# EAGLE library part 22-05-3061 (library con-molex-kk)
HEADER
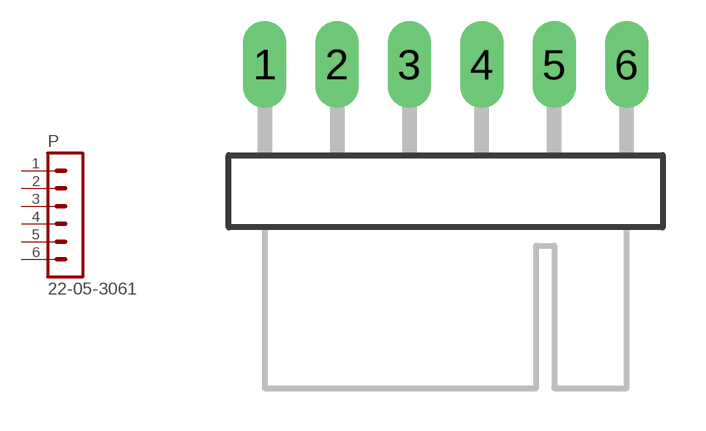
[diagram p174: symbol with the pads of 22-05-3061; footprint 22-05-3061]

Designator prefix P

## 22-05-3061  [22-05-3061]
1  1  pas
2  2  pas
3  3  pas
4  4  pas
5  5  pas
6  6  pas

## Footprint 22-05-3061 (pad centres in mm)
HEADER
drill 1.016 long: 1 -6.35,0; 2 -3.81,0; 3 -1.27,0; 4 1.27,0; 5 3.81,0; 6 6.35,0